# Altium integrated library BSS138.IntLib: 1 symbol
Pins are listed as number, name and electrical type; pins without a type are passive.

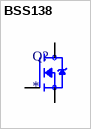
[diagram p0: symbol BSS138]

## BSS138
designator Q?
N-CH MOSFET 50V 0.34A SOT-23-3L; MP: BSS138; MF: Diodes Inc.; SnapEDA_Link: https://www.snapeda.com/parts/BSS138/Diodes+Inc./view-part/?ref=snap; Availability: Not in stock; Price: None; Package: SOT-23-3 Diodes Inc.; Value: *; Check_prices: https://www.snapeda.com/parts/BSS138/Diodes+Inc./view-part/?ref=eda
footprint SOT23
pins: 1 G, 2 S, 3 D